# Altium footprint library CON2_JST_S2P-VH.PcbLib: 1 footprints
Each footprint in its own frame and in the unit in brackets; x right, y up, seen from the top. Pads: shape width x height; smd on the part's side, far side on the other; paste and mask are expansions set on the pad; w line width, h text height; cw(c..) or ccw(c..) is an arc to the next point about the centre after c.
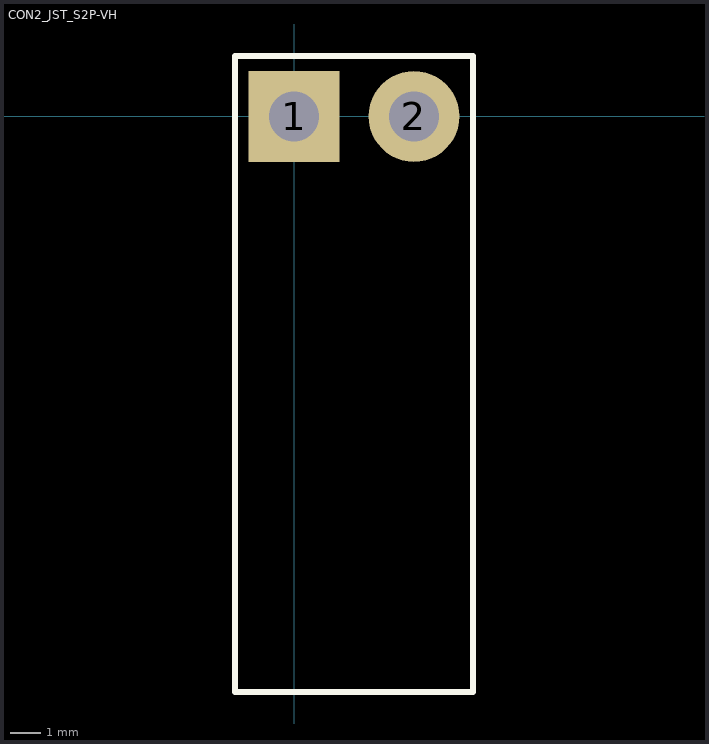
[diagram p0: the footprint, top view; thin cyan lines are the x and y axes]

## CON2_JST_S2P-VH [mm]
height 10.5
pads (2):
  rect 3x3 hole 1.65: 1(0,0)
  round 3 hole 1.65: 2(3.96,0)
Top Overlay:
  lines w0.2: -1.95,-19 -1.95,2 5.91,2 5.91,-19 -1.95,-19
3D body: height 8.5, standoff -3.6, extent -1.93,-13.35 5.93,2.05